# EAGLE library part SAMACSYS_PARTS_TPA3244DDWR (library TPA3244.dbl)
60W Stereo / 110W Peak PurePath Ultra-HD Analog-In, Pad-Down Class-D Amplifier Source: Datasheet <http://TI.com/tpa3244>
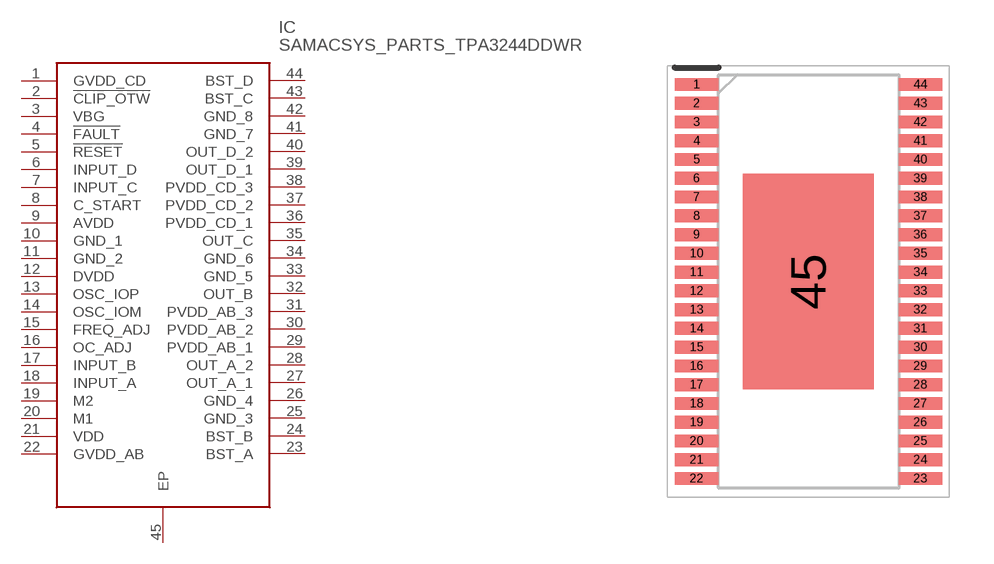
[diagram p0: symbol with the pads of SAMACSYS_PARTS_SOP64P810X120-45N; footprint SAMACSYS_PARTS_SOP64P810X120-45N]

Designator prefix IC

## SAMACSYS_PARTS_TPA3244DDWR (ARROW_PART_NUMBER: TPA3244DDWR; ARROW_PRICE-STOCK: https://www.arrow.com/en/products/tpa3244ddwr/texas-instruments; DESCRIPTION: 60W Stereo / 110W Peak PurePath Ultra-HD Analog-In, Pad-Down Class-D Amplifier; HEIGHT: 1.2mm; MANUFACTURER_NAME: Texas Instruments; MANUFACTURER_PART_NUMBER: TPA3244DDWR; MOUSER_PART_NUMBER: 595-TPA3244DDWR; MOUSER_PRICE-STOCK: https://www.mouser.co.uk/ProductDetail/Texas-Instruments/TPA3244DDWR/?qs=KuuZdrM3jLy0z3QDP7YLRA%3D%3D)  [SAMACSYS_PARTS_SOP64P810X120-45N]
1  GVDD_CD  pwr
2  !CLIP_OTW
3  VBG
4  !FAULT
5  !RESET
6  INPUT_D
7  INPUT_C
8  C_START
9  AVDD
10  GND_1
11  GND_2
12  DVDD
13  OSC_IOP
14  OSC_IOM
15  FREQ_ADJ
16  OC_ADJ
17  INPUT_B
18  INPUT_A
19  M2
20  M1
21  VDD
22  GVDD_AB
23  BST_A
24  BST_B
25  GND_3
26  GND_4
27  OUT_A_1
28  OUT_A_2
29  PVDD_AB_1
30  PVDD_AB_2
31  PVDD_AB_3
32  OUT_B
33  GND_5
34  GND_6
35  OUT_C
36  PVDD_CD_1
37  PVDD_CD_2
38  PVDD_CD_3
39  OUT_D_1
40  OUT_D_2  pwr
41  GND_7
42  GND_8
43  BST_C
44  BST_D
45  EP

## Footprint SAMACSYS_PARTS_SOP64P810X120-45N (pad centres in mm)
TPA3244DDWR
smd 1.475 x 0.435: 1 -3.788,6.668; 2 -3.788,6.032; 3 -3.788,5.398; 4 -3.788,4.762; 5 -3.788,4.128; 6 -3.788,3.492; 7 -3.788,2.858; 8 -3.788,2.222; 9 -3.788,1.588; 10 -3.788,0.952; 11 -3.788,0.318; 12 -3.788,-0.318; 13 -3.788,-0.952; 14 -3.788,-1.588; 15 -3.788,-2.222; 16 -3.788,-2.858; 17 -3.788,-3.492; 18 -3.788,-4.128; 19 -3.788,-4.762; 20 -3.788,-5.398; 21 -3.788,-6.032; 22 -3.788,-6.668; 23 3.788,-6.668; 24 3.788,-6.032; 25 3.788,-5.398; 26 3.788,-4.762; 27 3.788,-4.128; 28 3.788,-3.492; 29 3.788,-2.858; 30 3.788,-2.222; 31 3.788,-1.588; 32 3.788,-0.952; 33 3.788,-0.318; 34 3.788,0.318; 35 3.788,0.952; 36 3.788,1.588; 37 3.788,2.222; 38 3.788,2.858; 39 3.788,3.492; 40 3.788,4.128; 41 3.788,4.762; 42 3.788,5.398; 43 3.788,6.032; 44 3.788,6.668
smd 4.43 x 7.3: 45 0,0